# EAGLE library part ST-MICROELCTRONICS_BY_ELEMENT14_BATCH_1_STM32F103RET6 (library DASHBOARD_PARTS_LIB)
ARM-based 32-bit MCU
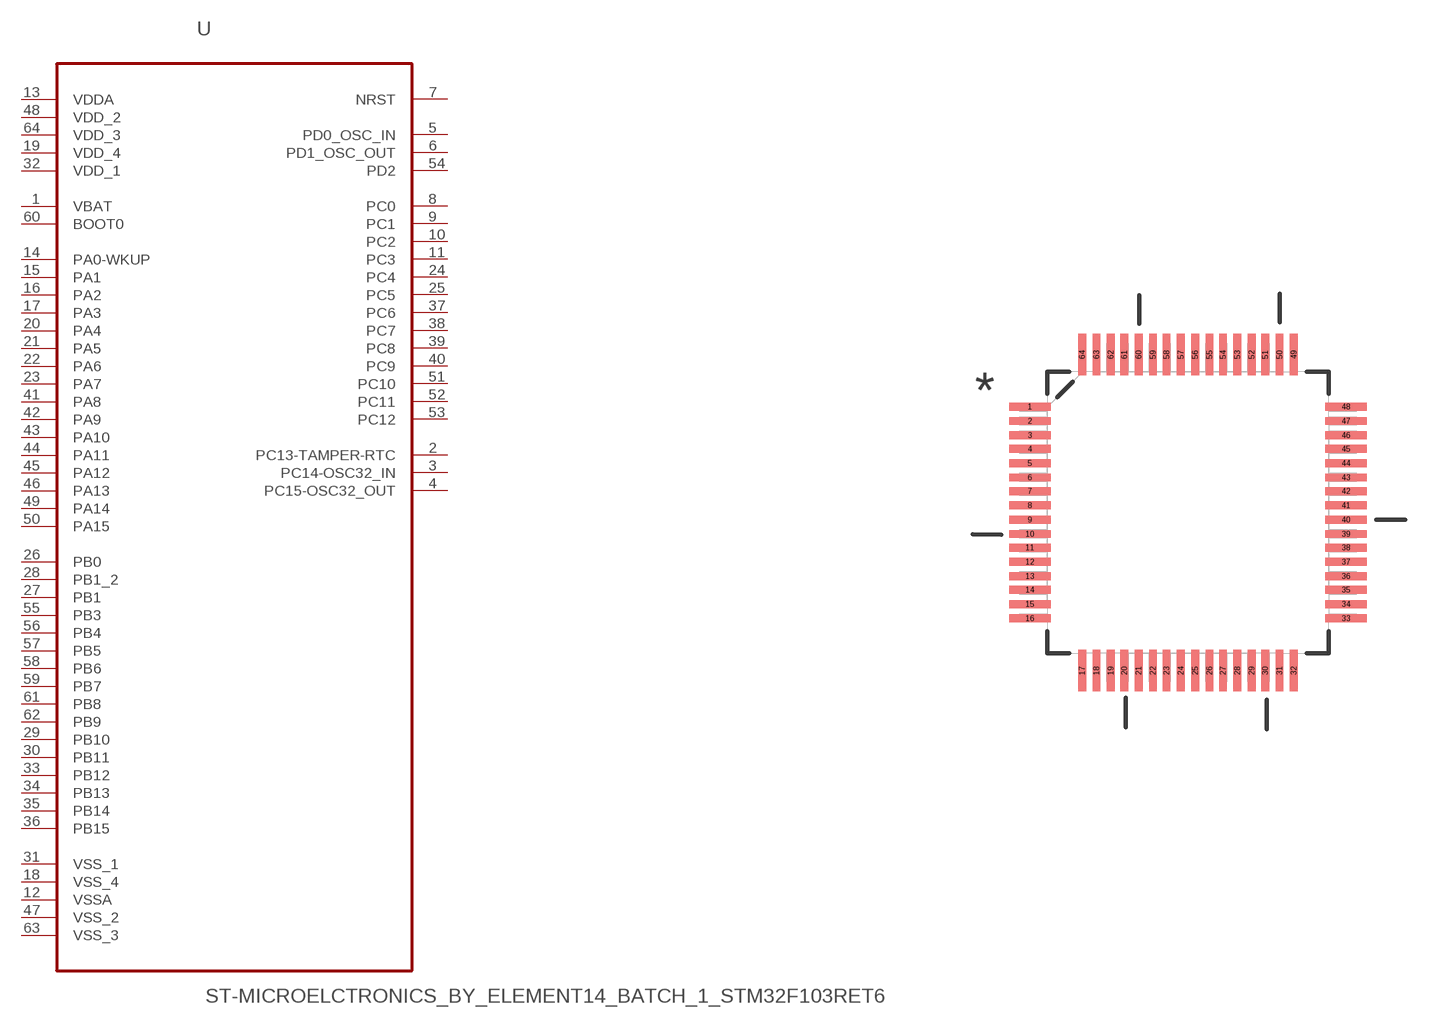
[diagram p4: symbol with the pads of ST-MICROELCTRONICS_BY_ELEMENT14_BATCH_1_QFP50P1200X1200X160-64N; footprint ST-MICROELCTRONICS_BY_ELEMENT14_BATCH_1_QFP50P1200X1200X160-64N]

Designator prefix U

## ST-MICROELCTRONICS_BY_ELEMENT14_BATCH_1_STM32F103RET6 (MPN: STM32F103RET6; OC_FARNELL: 1624138; OC_NEWARK: 01P4101; PACKAGE: QFP-64; SUPPLIER: STMICROELECTRONICS)  [ST-MICROELCTRONICS_BY_ELEMENT14_BATCH_1_QFP50P1200X1200X160-64N]
1  VBAT  in
2  PC13-TAMPER-RTC  in
3  PC14-OSC32_IN  in
4  PC15-OSC32_OUT  out
5  PD0_OSC_IN  in
6  PD1_OSC_OUT  out
7  NRST  out
8  PC0
9  PC1
10  PC2
11  PC3
12  VSSA  pas
13  VDDA  pwr
14  PA0-WKUP
15  PA1
16  PA2
17  PA3
18  VSS_4  pas
19  VDD_4  pwr
20  PA4
21  PA5
22  PA6
23  PA7  pwr
24  PC4  pas
25  PC5
26  PB0
27  PB1
28  PB1_2
29  PB10
30  PB11
31  VSS_1  pas
32  VDD_1  pwr
33  PB12
34  PB13
35  PB14
36  PB15
37  PC6
38  PC7
39  PC8
40  PC9
41  PA8
42  PA9
43  PA10
44  PA11
45  PA12
46  PA13
47  VSS_2  pas
48  VDD_2  pwr
49  PA14
50  PA15
51  PC10
52  PC11
53  PC12
54  PD2
55  PB3
56  PB4
57  PB5
58  PB6
59  PB7  pwr
60  BOOT0  pas
61  PB8
62  PB9
63  VSS_3  pas
64  VDD_3  pwr

## Footprint ST-MICROELCTRONICS_BY_ELEMENT14_BATCH_1_QFP50P1200X1200X160-64N (pad centres in mm)
smd 1.473 x 0.279: 1 -5.613,3.759; 2 -5.613,3.251; 3 -5.613,2.743; 4 -5.613,2.261; 5 -5.613,1.753; 6 -5.613,1.245; 7 -5.613,0.762; 8 -5.613,0.254; 9 -5.613,-0.254; 10 -5.613,-0.762; 11 -5.613,-1.245; 12 -5.613,-1.753; 13 -5.613,-2.261; 14 -5.613,-2.743; 15 -5.613,-3.251; 16 -5.613,-3.759; 33 5.613,-3.759; 34 5.613,-3.251; 35 5.613,-2.743; 36 5.613,-2.261; 37 5.613,-1.753; 38 5.613,-1.245; 39 5.613,-0.762; 40 5.613,-0.254; 41 5.613,0.254; 42 5.613,0.762; 43 5.613,1.245; 44 5.613,1.753; 45 5.613,2.261; 46 5.613,2.743; 47 5.613,3.251; 48 5.613,3.759
smd 0.279 x 1.473: 17 -3.759,-5.613; 18 -3.251,-5.613; 19 -2.743,-5.613; 20 -2.261,-5.613; 21 -1.753,-5.613; 22 -1.245,-5.613; 23 -0.762,-5.613; 24 -0.254,-5.613; 25 0.254,-5.613; 26 0.762,-5.613; 27 1.245,-5.613; 28 1.753,-5.613; 29 2.261,-5.613; 30 2.743,-5.613; 31 3.251,-5.613; 32 3.759,-5.613; 49 3.759,5.613; 50 3.251,5.613; 51 2.743,5.613; 52 2.261,5.613; 53 1.753,5.613; 54 1.245,5.613; 55 0.762,5.613; 56 0.254,5.613; 57 -0.254,5.613; 58 -0.762,5.613; 59 -1.245,5.613; 60 -1.753,5.613; 61 -2.261,5.613; 62 -2.743,5.613; 63 -3.251,5.613; 64 -3.759,5.613